# EAGLE library part 6POS-3.81MM-TERMINALBLOCK (library ClintonLib)
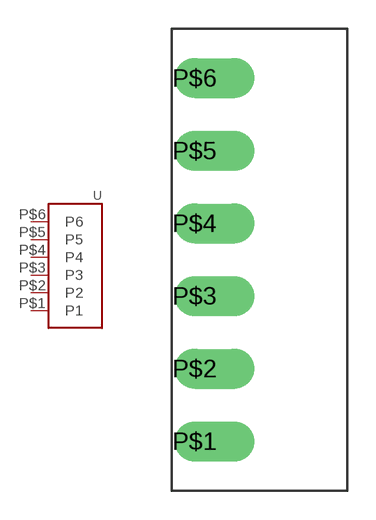
[diagram p24: symbol with the pads of 6POS-3.81MM-TERMINALBLOCK; footprint 6POS-3.81MM-TERMINALBLOCK]

Designator prefix -

## 6POS-3.81MM-TERMINALBLOCK  [6POS-3.81MM-TERMINALBLOCK]
P$1  P1
P$2  P2
P$3  P3
P$4  P4
P$5  P5
P$6  P6

## Footprint 6POS-3.81MM-TERMINALBLOCK (pad centres in mm)
drill 1.4 offset: P$1 0,0; P$2 0,3.81; P$3 0,7.62; P$4 0,11.43; P$5 0,15.24; P$6 0,19.05